# Altium footprint library 11-11F1.PcbLib: 1 footprints
Each footprint in its own frame and in the unit in brackets; x right, y up, seen from the top. Pads: shape width x height; smd on the part's side, far side on the other; paste and mask are expansions set on the pad; w line width, h text height; cw(c..) or ccw(c..) is an arc to the next point about the centre after c.
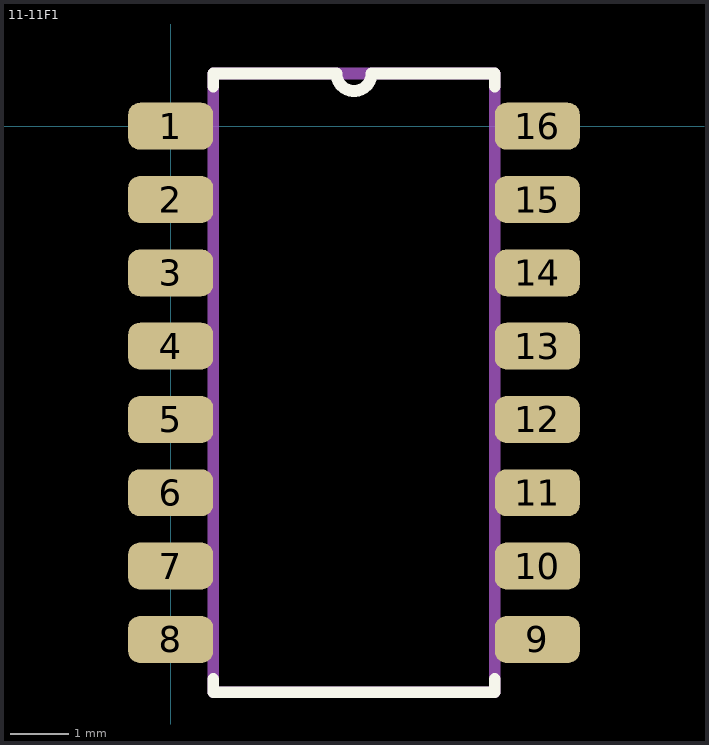
[diagram p0: the footprint, top view; thin cyan lines are the x and y axes]

## 11-11F1 [mm]
height 2.2
pads (16):
  rrect50% 1.45x0.8 smd: 1(0,0) 2(0,-1.25) 3(0,-2.5) 4(0,-3.75) 5(0,-5) 6(0,-6.25) 7(0,-7.5) 8(0,-8.75) 9(6.25,-8.75) 10(6.25,-7.5) 11(6.25,-6.25) 12(6.25,-5) 13(6.25,-3.75) 14(6.25,-2.5) 15(6.25,-1.25) 16(6.25,0)
Top Overlay:
  lines w0.2: 0.725,-9.425 0.725,-9.65 5.525,-9.65 5.525,-9.425 ; 0.725,0.675 0.725,0.9 2.825,0.9 ccw(c3.125,0.9) 3.425,0.9 5.525,0.9 5.525,0.675
Mechanical 14:
  lines w0.2: 0.725,-9.65 5.525,-9.65 5.525,0.9 0.725,0.9 0.725,-9.65
  text "*" at 2.65,-5.8 h2
3D body "TLP293-4.SLDPRT": height 2.35, standoff 0, extent -0.375,-9.65 6.625,0.9